# Altium schematic symbol library openmv-n6.SCHLIB: 99 symbols
Pins are listed as number, name and electrical type; pins without a type are passive.

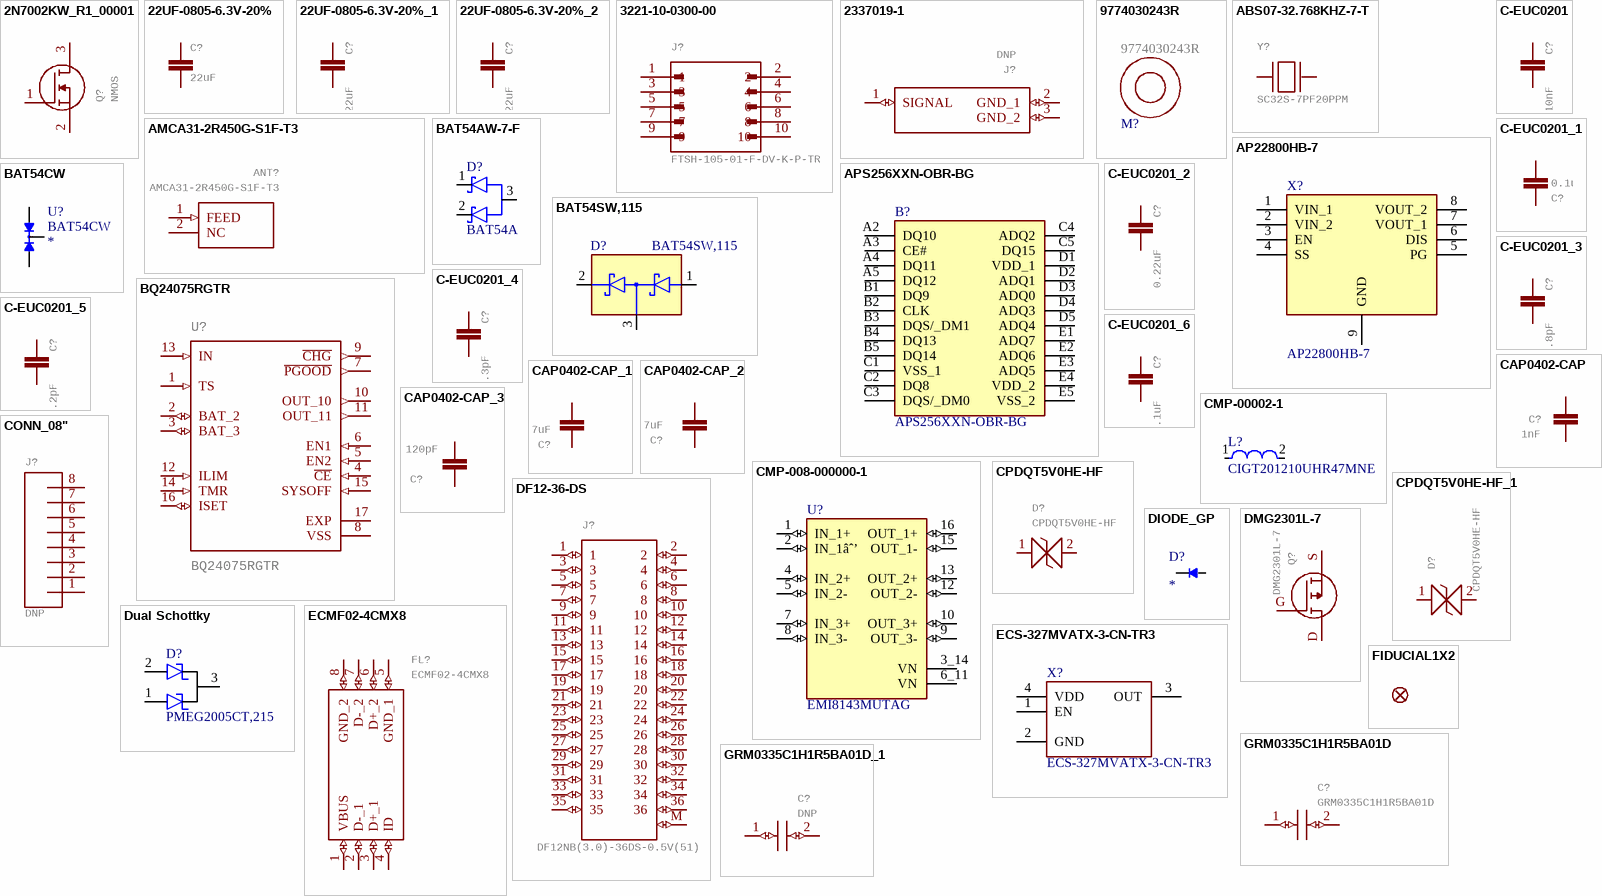
[diagram p0: symbols 2N7002KW_R1_00001 to GRM0335C1H1R5BA01D_1]

## 2N7002KW_R1_00001
designator Q?, comment NMOS
MOSFET 60V N-Channel Enhancement Mode MOSFET - ESD Protected   Source:  Datasheet
footprint DFN1006
pins: 1 G (io), 2 S (io), 3 D (io)

## 22UF-0805-6.3V-20%
designator C?, comment 22uF
22ÂµF ceramic capacitors    A capacitor is a passive two-terminal electrical component used to store electrical energy temporarily in an electric field.; MPN: CL21A226MQQNNNE; GateName_1: G$1; SymbolName_1: CAP; DeviceName: -0805-6.3V-20%; PROD_ID: CAP-08402; LibraryName: SparkFun-Capacitors; DeviceSetName: 22UF; Part Number: CL21A226MQQNNNE
footprint 0805
pins: 1, 2

## 22UF-0805-6.3V-20%_1
designator C?, comment 22uF
22ÂµF ceramic capacitors    A capacitor is a passive two-terminal electrical component used to store electrical energy temporarily in an electric field.; MPN: CL21A226MQQNNNE; GateName_1: G$1; SymbolName_1: CAP; DeviceName: -0805-6.3V-20%; PROD_ID: CAP-08402; LibraryName: SparkFun-Capacitors; DeviceSetName: 22UF; Part Number: CL21A226MQQNNNE
footprint 0805
pins: 1, 2

## 22UF-0805-6.3V-20%_2
designator C?, comment 22uF
22ÂµF ceramic capacitors    A capacitor is a passive two-terminal electrical component used to store electrical energy temporarily in an electric field.; MPN: GRM188R60G226MEA0D; GateName_1: G$1; SymbolName_1: CAP; DeviceName: -0805-6.3V-20%; PROD_ID: CAP-08402; LibraryName: SparkFun-Capacitors; DeviceSetName: 22UF; Part Number: GRM188R60G226MEA0D
footprint 0603-CAP (Chip Capacitor, Body 0603 imperial,1.6x0.8mm, IPC High Density)
pins: 1, 2

## 3221-10-0300-00
designator J?, comment FTSH-105-01-F-DV-K-P-TR
Check availability; GateName_1: G$1; SymbolName_1: 3221-10-0300-00; MF: CNC Tech; LibraryName: 3221-10-0300-00; DeviceSetName: 3221-10-0300-00; AVAILABILITY: In Stock; MP: FTSH-105-01-F-DV-K-P-TR; MPN: FTSH-105-01-F-DV-K-P-TR; PACKAGE: None; PRICE: None; PURCHASE-URL: https://pricing.snapeda.com/search/part/3221-10-0300-00/?ref=eda; Part Number: FTSH-105-01-F-DV-K-P-TR
footprint CNC_3221-10-0300-00
pins: 1, 2, 3, 4, 5, 6, 7, 8, 9, 10

## 2337019-1
designator J?, comment DNP
RF Connectors / Coaxial Connectors MicroCoax receptacle UMCC Gen 1   Source:  Datasheet; MANUFACTURER_NAME: TE Connectivity; GateName_1: G$1; SymbolName_1: 2337019-1; POPULATE: 0; LibraryName: 2337019-1; DeviceSetName: 2337019-1; HEIGHT: 1.4mm; MANUFACTURER_PART_NUMBER: 2337019-1; MOUSER_PART_NUMBER: 571-2337019-1; MOUSER_PRICE-STOCK: https://www.mouser.co.uk/ProductDetail/TE-Connectivity/2337019-1?qs=l4Gc20tDgJIuN7nS9rJkJw%3D%3D; MPN: DNP; Part Number: DNP
footprint 23370191-NO-3D (23370191)
pins: 1 SIGNAL (io), 2 GND_1 (io), 3 GND_2 (io)

## 9774030243R
designator M?
M2 3mm Standoff; GateName_1: G$1; SymbolName_1: 9774030243R; LibraryName: 9774030243R; DeviceSetName: 9774030243R; MPN: 9774030243R; Part Number: 9774030243R
footprint 9774030243R (Round Standoff Threaded M2x0.4 Steel 0.118" (3.00mm))

## ABS07-32.768KHZ-7-T
designator Y?, comment SC32S-7PF20PPM
Check availability; GateName_1: G$1; SymbolName_1: ABS07-32.768KHZ-7-T; MF: Abracon; LibraryName: ABS07-32.768KHZ-7-T; DeviceSetName: ABS07-32.768KHZ-7-T; AVAILABILITY: In Stock; MP: ABS07-32.768KHZ-7-T; MPN: SC32S-7PF20PPM; PACKAGE: SMD-2 Abracon LLC; PRICE: None; PURCHASE-URL: https://pricing.snapeda.com/search/part/ABS07-32.768KHZ-7-T/?ref=eda; Part Number: SC32S-7PF20PPM
footprint XTAL_ABS07-32.768KHZ-7-T
pins: 1, 2

## AMCA31-2R450G-S1F-T3
designator ANT?
ABRACON - AMCA31-2R450G-S1F-T3 - ANTENNA, CHIP, 2.45GHZ, 50 OHM, 1206   Source:  Datasheet; GateName_1: G$1; SymbolName_1: AMCA31-2R450G-S1F-T3; LibraryName: AMCA31-2R450G-S1F-T3; DeviceSetName: AMCA31-2R450G-S1F-T3; HEIGHT: 1.4mm; MANUFACTURER_NAME: ABRACON; MANUFACTURER_PART_NUMBER: AMCA31-2R450G-S1F-T3; MOUSER_PART_NUMBER: 815-CA312R450GS1FT3; MOUSER_PRICE-STOCK: https://www.mouser.co.uk/ProductDetail/ABRACON/AMCA31-2R450G-S1F-T3?qs=AAveGqk956GLuOddQEK40Q%3D%3D; MPN: AMCA31-2R450G-S1F-T3; Part Number: AMCA31-2R450G-S1F-T3
footprint ANTC3216X140N
pins: 1 FEED (in), 2 NC

## AP22800HB-7
designator X?
Power Switch ICs - Power Distribution Load Switch; Manufacturer_Name: Diodes Incorporated; Geometry.Height: 0.605mm; Mouser Part Number: 621-AP22800HB-7; Mouser Price/Stock: https://www.mouser.co.uk/ProductDetail/Diodes-Incorporated/AP22800HB-7?qs=9BjnSzo86S%2FcRh3gewZ%2Ftg%3D%3D; Manufacturer_Part_Number: AP22800HB-7; Datasheet Link: https://www.diodes.com/assets/Datasheets/AP22800.pdf; MPN: AP22800HB-7; Part Number: AP22800HB-7
footprint SON50P161X211X60-9N
pins: 1 VIN_1, 2 VIN_2, 3 EN, 4 SS, 5 PG, 6 DIS, 7 VOUT_1, 8 VOUT_2, 9 GND

## APS256XXN-OBR-BG
designator B?
DRAM IoT RAM 256Mb OPI (x8,x16) DDR 200MHz, 1.8V, Ind. Temp., BGA24; Manufacturer_Name: AP Memory; Geometry.Height: 1.2mm; Mouser Part Number: 878-APS256XXN-OBR-BG; Mouser Price/Stock: https://www.mouser.co.uk/ProductDetail/AP-Memory/APS256XXN-OBR-BG?qs=IS%252B4QmGtzzr0jQp6msfTlA%3D%3D; Manufacturer_Part_Number: APS256XXN-OBR-BG; Datasheet Link: https://www.mouser.ie/datasheet/2/1127/APM_PSRAM_OPI_Xccela_APS256XXN_OBRx_v1_0_PKG-1954780.pdf; Part Number: APS256XXN-OBR-BG; MPN: APS256XXN-OBR-BG
footprint 24-TBGA
pins: A2 DQ10, A3 CE#, A4 DQ11, A5 DQ12, B1 DQ9, B2 CLK, B3 DQS/_DM1, B4 DQ13, B5 DQ14, C1 VSS_1, C2 DQ8, C3 DQS/_DM0, C4 ADQ2, C5 DQ15, D1 VDD_1, D2 ADQ1, D3 ADQ0, D4 ADQ3, D5 ADQ4, E1 ADQ7, E2 ADQ6, E3 ADQ5, E4 VDD_2, E5 VSS_2

## BAT54AW-7-F
designator D?, comment BAT54A
Diode Array 1 Pair Common Anode Schottky 30V 200mA (DC) Surface Mount SC-70, SOT-323; Part Number: BAT54AW,115; Package: None; Source: BAT54AW-7-F.SchLib; Availability: Unavailable; Price: None; MP: BAT54A; Value: *; Design Item ID: BAT54A; Component Type: Standard; Pin Count: 3; MPN: BAT54AW,115
footprint SOT65P210X110-3N
pins: 1 C1, 2 C2, 3 CA

## BAT54CW
designator U?
Diode Array 1 Pair Common Cathode Schottky 30 V 200mA (DC) Surface Mount SC-70, SOT-323; Part Number: BAT54CW,115; MF: ON Semiconductor; SnapEDA_Link: https://www.snapeda.com/parts/BAT54CW/Onsemi/view-part/?ref=snap; MP: BAT54CW; Purchase-URL: https://pricing.snapeda.com/search/part/BAT54CW/?ref=eda; Check_prices: https://www.snapeda.com/parts/BAT54CW/Onsemi/view-part/?ref=eda; Component Type: Standard; Availability: In Stock; Package: SC-70 NXP Semiconductors; Source: BAT54CW.SchLib; Design Item ID: BAT54CW; Price: None; Pin Count: 3; MPN: BAT54CW,115; Value: *
footprint SOT65P210X110-3N
pins: 1, 2, 3

## BAT54SW,115
designator D?
BAT54W Series 30 V 600 mA SMT Schottky Barrier Double Diode -SOT-323; Source: BAT54SW,115.SchLib; Pin Count: 3; Price: None; Availability: Unavailable; Component Type: Standard; Value: *; Design Item ID: BAT54SW,115; MP: BAT54SW,115; Package: None; Part Number: BAT54SW,115; MPN: BAT54SW,115
footprint SOT65P210X110-3N
pins: 1 A, 2 C, 3 A-C

## BQ24075RGTR
designator U?
Standalone 1-cell 1.5-A linear charger, Power Path, 4.2-V VBAT and 5.5-V VOUT 16-VQFN -40 to 85  Check availability; GateName_1: G$1; MF: Texas Instruments; SymbolName_1: BQ24075RGTR; LibraryName: BQ24075RGTR; DeviceSetName: BQ24075RGTR; AVAILABILITY: In Stock; MP: BQ24075RGTR; MPN: BQ24075RGTR; PACKAGE: VQFN-16 Texas Instruments; PRICE: None; PURCHASE-URL: https://pricing.snapeda.com/search/part/BQ24075RGTR/?ref=eda; Part Number: BQ24075RGTR
footprint QFN50P300X300X100-17N
pins: 1 TS (in), 2 BAT_2 (io), 3 BAT_3 (io), 4 ~{CE} (in), 5 EN2 (in), 6 EN1 (in), 7 ~{PGOOD} (out), 8 VSS (power), 9 ~{CHG} (out), 10 OUT_10 (out), 11 OUT_11 (out), 12 ILIM (in), 13 IN (in), 14 TMR (in), 15 SYSOFF (in), 16 ISET (io), 17 EXP (power)

## C-EUC0201
designator C?, comment 10nF
CAPACITOR, European symbol; MPN: 0402B103K250CT; GateName_1: G$1; SymbolName_1: C-EU; POPULARITY: 0; LibraryName: rcl; DeviceSetName: C-EU; SPICEPREFIX: C; Part Number: 0402B103K250CT
footprint 0402-CAP (Chip Capacitor, 2-Leads, Body  0402 (in) 1005 (mm), IPC Medium Density)
pins: 1, 2

## C-EUC0201_1
designator C?, comment 0.1uF
CAPACITOR, European symbol; MPN: C0402C104Z4VAC; GateName_1: G$1; SymbolName_1: C-EU; POPULARITY: 0; LibraryName: rcl; DeviceSetName: C-EU; SPICEPREFIX: C; Part Number: C0402C104Z4VAC
footprint 0402-CAP (Chip Capacitor, 2-Leads, Body  0402 (in) 1005 (mm), IPC Medium Density)
pins: 1, 2

## C-EUC0201_2
designator C?, comment 0.22uF
CAPACITOR, European symbol; MPN: GRM033R60J224ME15D; GateName_1: G$1; SymbolName_1: C-EU; DeviceName: C0201; POPULARITY: 0; LibraryName: rcl; DeviceSetName: C-EU; SPICEPREFIX: C; Part Number: GRM033R60J224ME15D
footprint C0201
pins: 1, 2

## C-EUC0201_3
designator C?, comment 6.8pF
CAPACITOR, European symbol; MPN: GRM0335C1H6R8BA01D; GateName_1: G$1; SymbolName_1: C-EU; DeviceName: C0201; POPULARITY: 0; LibraryName: rcl; DeviceSetName: C-EU; SPICEPREFIX: C; Part Number: GRM0335C1H6R8BA01D
footprint C0201
pins: 1, 2

## C-EUC0201_4
designator C?, comment 3.3pF
CAPACITOR, European symbol; MPN: GRM0335C1H3R3CA01D; GateName_1: G$1; SymbolName_1: C-EU; DeviceName: C0201; POPULARITY: 0; LibraryName: rcl; DeviceSetName: C-EU; SPICEPREFIX: C; Part Number: GRM0335C1H3R3CA01D
footprint C0201
pins: 1, 2

## C-EUC0201_5
designator C?, comment 8.2pF
CAPACITOR, European symbol; MPN: GRM0335C1H8R2CA01D; GateName_1: G$1; SymbolName_1: C-EU; DeviceName: C0201; POPULARITY: 0; LibraryName: rcl; DeviceSetName: C-EU; SPICEPREFIX: C; Part Number: GRM0335C1H8R2CA01D
footprint C0201
pins: 1, 2

## C-EUC0201_6
designator C?, comment 0.1uF
CAPACITOR, European symbol; MPN: C0402C104Z4VAC; GateName_1: G$1; SymbolName_1: C-EU; POPULARITY: 0; LibraryName: rcl; DeviceSetName: C-EU; SPICEPREFIX: C; Part Number: C0402C104Z4VAC
footprint 0402-CAP (Chip Capacitor, 2-Leads, Body  0402 (in) 1005 (mm), IPC Medium Density)
pins: 1, 2

## CAP0402-CAP
designator C?, comment 1nF
Capacitor; MPN: VJ0402Y102JXACW1BC; GateName_1: G$1; SymbolName_1: CAP; DeviceName: 0402-CAP; LibraryName: sfe; DeviceSetName: CAP; Part Number: VJ0402Y102JXACW1BC
footprint 0402-CAP
pins: 1, 2

## CAP0402-CAP_1
designator C?, comment 4.7uF
CapacitorStandard 0603 ceramic capacitor, and 0.1" leaded capacitor.; MPN: JMK105BBJ475MV-F; GateName_1: G$1; SymbolName_1: CAP; DeviceName: 0402-CAP; LibraryName: sfe; DeviceSetName: CAP; Part Number: JMK105BBJ475MV-F
footprint 0402-CAP
pins: 1, 2

## CAP0402-CAP_2
designator C?, comment 4.7uF
CapacitorStandard 0603 ceramic capacitor, and 0.1" leaded capacitor.; MPN: JMK105BBJ475MV-F; GateName_1: G$1; SymbolName_1: CAP; DeviceName: 0402-CAP; LibraryName: sfe; DeviceSetName: CAP; Part Number: JMK105BBJ475MV-F
footprint 0402-CAP
pins: 1, 2

## CAP0402-CAP_3
designator C?, comment 120pF
CapacitorStandard 0603 ceramic capacitor, and 0.1" leaded capacitor.; MPN: GRM1555C2A121GE01D; GateName_1: G$1; SymbolName_1: CAP; DeviceName: 0402-CAP; LibraryName: sfe; DeviceSetName: CAP; Part Number: GRM1555C2A121GE01D
footprint 0402-CAP
pins: 1, 2

## CMP-00002-1
designator L?, comment CIGT201210UHR47MNE
Power Inductor : LxW size(mm) 2012 Thickness1 Inductance (uH) 20%: 0.47; Current Rating: 3.6A; Shielding: Unshielded; Test Frequency: 1MHz; DC Resistance (DCR): 31mR; Saturation Current: 5.4A; Core Material: Metal,Composite; Value: 470nH; Tolerance: 20%; Packaging: Cut Tape; Case Code (Imperial): 0805; Case/Package: 0805; RoHS Compliant: Yes; Max Operating Temperature: 125°C; Series: CIGT; Min Operating Temperature: -40°C; Mounting Technology: Surface Mount; Case Code (Metric): 2012; MPN: CIGT201210UHR47MNE; Part Number: CIGT201210UHR47MNE
footprint 0805 (Chip Capacitor, Body 0805 imperial, 2.0x1.2mm, IPC Medium Density)
pins: 1, 2

## CMP-008-000000-1
designator U?, comment EMI8143MUTAG
6 Line Common Mode Choke Surface Mount 100mA DCR 6Ohm (Typ); MF: ON Semiconductor; Design Item ID: EMI8143MUTAG; Source: EMI8143MUTAG.SchLib; Package: XDFN-16 ON Semiconductor; Pin Count: 14; MP: EMI8143MUTAG; Component Type: Standard; Digi-Key_Part_Number: EMI8143MUTAGOSCT-ND; Value: *; SnapEDA_Link: https://www.snapeda.com/parts/EMI8143MUTAG/ON%20Semiconductor/view-part/182093/?ref=snap; Purchase-URL: https://pricing.snapeda.com/search/part/EMI8143MUTAG/?ref=eda; MPN: EMI8143MUTAG; Part Number: EMI8143MUTAG
footprint IC_EMI8143MUTAG
pins: 1 IN_1+ (io), 2 IN_1âˆ’ (io), 3_14 VN (power), 4 IN_2+ (io), 5 IN_2- (io), 6_11 VN (power), 7 IN_3+ (io), 8 IN_3- (io), 9 OUT_3- (io), 10 OUT_3+ (io), 12 OUT_2- (io), 13 OUT_2+ (io), 15 OUT_1- (io), 16 OUT_1+ (io)

## CONN_08"
designator J?, comment DNP
Multi connection point. Often used as Generic Header-pin footprint for 0.1 inch spaced/style header connections    On any of the 0.1 inch spaced packages, you can populate with these:  Break Away Headers - Straight (PRT-00116)   Break Away Male Headers - Right Angle (PRT-00553)   Female Headers (PRT-00115)   Break Away Headers - Machine Pin (PRT-00117)   Break Away Female Headers - Swiss Machine Pin (PRT-00743)   Arduino Stackable Header - 8 Pin (PRT-09279)        For SCREWTERMINALS and SPRING TERMINALS visit here:  Screw Terimnals on SparkFun.com (5mm/3.5mm/2.54mm spacing)       This device is also useful as a general connection point to wire up your design to another part of your project. Our various solder wires solder well into these plated through hole pads.  Hook-Up Wire - Assortment (Stranded, 22 AWG) (PRT-11375)   Hook-Up Wire - Assortment (Solid Core, 22 AWG) (PRT-11367)   View the entire wire category on our website here          Special notes:     Molex polarized connector foot print use with SKU : PRT-08231 with associated crimp pins and housings. 1MM SMD Version SKU: PRT-10208    NOTES ON THE VARIANTS LOCK and LOCK_LONGPADS... This footprint was designed to help hold the alignment of a through-hole component (i.e.  6-pin header) while soldering it into place. You may notice that each hole has been shifted either up or down by 0.005 of an inch from it's more standard position (which is a perfectly straight line).  This slight alteration caused the pins (the squares in the middle) to touch the edges of the holes.  Because they are alternating, it causes a "brace" to hold the component in place.  0.005 has proven to be the perfect amount of "off-center" position when using our standard breakaway headers. Although looks a little odd when you look at the bare footprint, once you have a header in there, the alteration is very hard to notice.  Also,if you push a header all the way into place, it is covered up entirely on the bottom side.; GateName_1: G$1; SymbolName_1: CONN_08; DeviceName: "; POPULATE: 0; PROD_ID: CONN-08438; LibraryName: SparkFun-Connectors; DeviceSetName: CONN_08; MPN: DNP; Part Number: DNP
footprint 1X08
pins: 1, 2, 3, 4, 5, 6, 7, 8

## CPDQT5V0HE-HF
designator D?
ESD Suppressors / TVS Diodes DIODE ESD 5VWM 65W 0402/SOD-923F   Source:  Datasheet; MANUFACTURER_NAME: Comchip Technology; GateName_1: G$1; SymbolName_1: CPDQT5V0HE-HF; LibraryName: CPDQT5V0HE-HF; DeviceSetName: CPDQT5V0HE-HF; HEIGHT: 0.42mm; MANUFACTURER_PART_NUMBER: CPDQT5V0HE-HF; MOUSER_PART_NUMBER: MOUSER_PART_NUMBER; MOUSER_PRICE-STOCK: MOUSER_PRICE-STOCK; MPN: CPDQT5V0HE-HF; Part Number: CPDQT5V0HE-HF
footprint CPDQT5V0HEHF
pins: 1 (io), 2 (io)

## CPDQT5V0HE-HF_1
designator D?, comment CPDQT5V0HE-HF
ESD Suppressors / TVS Diodes DIODE ESD 5VWM 65W 0402/SOD-923F   Source:  Datasheet; MANUFACTURER_NAME: Comchip Technology; GateName_1: G$1; SymbolName_1: CPDQT5V0HE-HF; LibraryName: CPDQT5V0HE-HF; DeviceSetName: CPDQT5V0HE-HF; HEIGHT: 0.42mm; MANUFACTURER_PART_NUMBER: CPDQT5V0HE-HF; MOUSER_PART_NUMBER: MOUSER_PART_NUMBER; MOUSER_PRICE-STOCK: MOUSER_PRICE-STOCK; MPN: CPDQT5V0HE-HF; Part Number: CPDQT5V0HE-HF
footprint CPDQT5V0HEHF
pins: 1 (io), 2 (io)

## DF12-36-DS
designator J?, comment DF12NB(3.0)-36DS-0.5V(51)
Header; GateName_1: G$1; SymbolName_1: DF12-36; DeviceSetName: DF12-36-DS; LibraryName: DF12-36-DS; MPN: DF12NB(3.0)-36DS-0.5V(51); Part Number: DF12NB(3.0)-36DS-0.5V(51)
footprint DF12-36-DS
pins: 1 (io), 2 (io), 3 (io), 4 (io), 5 (io), 6 (io), 7 (io), 8 (io), 9 (io), 10 (io), 11 (io), 12 (io), 13 (io), 14 (io), 15 (io), 16 (io), 17 (io), 18 (io), 19 (io), 20 (io), 21 (io), 22 (io), 23 (io), 24 (io), 25 (io), 26 (io), 27 (io), 28 (io), 29 (io), 30 (io), 31 (io), 32 (io), 33 (io), 34 (io), 35 (io), 36 (io), M (io)

## DIODE_GP
designator D?
MF: *; MPN: *
footprint SOD523
pins: 1, 2

## DMG2301L-7
designator Q?
GateName_1: G$1; HEIGHT: 1.1mm; MPN: DMG2301L-7; Part Number: DMG2301L-7
footprint SOT-23-3-FET
pins: D (io), G (io), S (io)

## Dual Schottky
designator D?  MPN: PMEG2005CT,215  (hidden comment: Dual Schottky)
MANUFACTURER: Nexperia; Value: ?V; Part Number: PMEG2005CT,215
footprint SOT-23-3 (Footprint not found)
pins: 1, 2, 3

## ECMF02-4CMX8
designator FL?
Common Mode Filter & ESD Prot. USB uQFN8 STMicroelectronics ECMF02 Series, Signal Filter uQFN SMD, Flat Contact Termination, 2.6 x 1.3 x 0.6mm   Source:  Datasheet; GateName_1: G$1; SymbolName_1: ECMF02-4CMX8; LibraryName: ECMF02-4CMX8; DeviceSetName: ECMF02-4CMX8; HEIGHT: mm; MANUFACTURER_NAME: STMicroelectronics; MANUFACTURER_PART_NUMBER: ECMF02-4CMX8; MOUSER_PART_NUMBER: 511-ECMF02-4CMX8; MOUSER_PRICE-STOCK: https://www.mouser.co.uk/ProductDetail/STMicroelectronics/ECMF02-4CMX8?qs=xYt8xtm2zhmK7GoDlDZR3A%3D%3D; MPN: ECMF02-4CMX8; Part Number: ECMF02-4CMX8
footprint ECMF024CMX8
pins: 1 VBUS (io), 2 D-_1 (io), 3 D+_1 (io), 4 ID (io), 5 GND_1 (io), 6 D+_2 (io), 7 D-_2 (io), 8 GND_2 (io)

## ECS-327MVATX-3-CN-TR3
designator X?
Part Number: ECS-327MVATX-3-CN-TR3; MPN: ECS-327MVATX-3-CN-TR3
footprint XTAL_3225
pins: 1 EN, 2 GND, 3 OUT, 4 VDD

## FIDUCIAL1X2
designator FD?  (value not drawn)
Fiducial Alignment Points    Point-of-reference for pick-and-place machines and other optical instruments.; GateName_1: G$1; DeviceName: 1X2; SymbolName_1: FIDUCIAL; LibraryName: SparkFun-Aesthetics; DeviceSetName: FIDUCIAL
footprint FIDUCIAL-1X2

## GRM0335C1H1R5BA01D
designator C?
Chip Capacitor value 1R5   Source:  Datasheet; MANUFACTURER_NAME: Murata Electronics; GateName_1: G$1; SymbolName_1: GRM0335C1H1R5BA01D; LibraryName: GRM0335C1H1R5BA01D; DeviceSetName: GRM0335C1H1R5BA01D; HEIGHT: 0.33mm; MANUFACTURER_PART_NUMBER: GRM0335C1H1R5BA01D; MOUSER_PART_NUMBER: 81-GRM0335C1H1R5BA1D; MOUSER_PRICE-STOCK: https://www.mouser.co.uk/ProductDetail/Murata-Electronics/GRM0335C1H1R5BA01D?qs=7vGxPDjevFPFqveGwv%252BPUQ%3D%3D; MPN: GRM0335C1H1R5BA01D; Part Number: GRM0335C1H1R5BA01D
footprint CAPC0603X33N
pins: 1 (io), 2 (io)

## GRM0335C1H1R5BA01D_1
designator C?, comment DNP
Chip Capacitor value 1R5   Source:  Datasheet; MANUFACTURER_NAME: Murata Electronics; GateName_1: G$1; SymbolName_1: GRM0335C1H1R5BA01D; POPULATE: 0; LibraryName: GRM0335C1H1R5BA01D; DeviceSetName: GRM0335C1H1R5BA01D; HEIGHT: 0.33mm; MANUFACTURER_PART_NUMBER: GRM0335C1H1R5BA01D; MOUSER_PART_NUMBER: 81-GRM0335C1H1R5BA1D; MOUSER_PRICE-STOCK: https://www.mouser.co.uk/ProductDetail/Murata-Electronics/GRM0335C1H1R5BA01D?qs=7vGxPDjevFPFqveGwv%252BPUQ%3D%3D; MPN: DNP; Part Number: DNP
footprint C0201-NO-3D (Footprint not found)
pins: 1 (io), 2 (io)

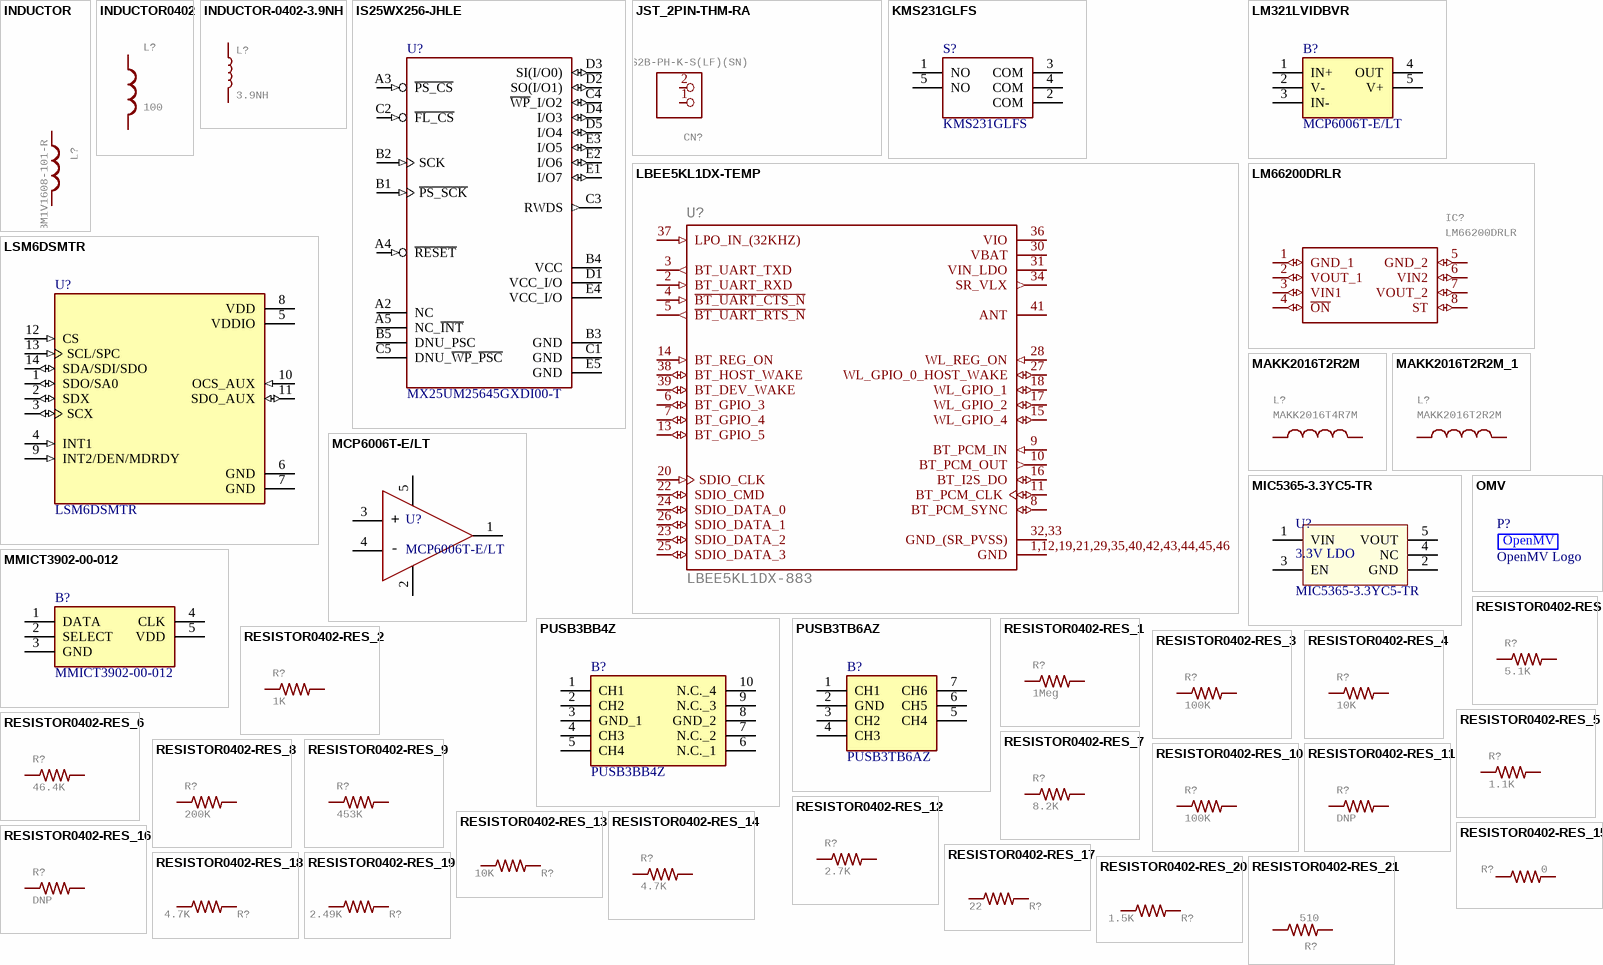
[diagram p1: symbols INDUCTOR to RESISTOR0402-RES_21]

## INDUCTOR
designator L?, comment MFBM1V1608-101-R
InductorsBasic Inductor/Choke - 0603 and 1206. Footprints are not proven and vary greatly between part numbers.; GateName_1: G$1; MPN: MFBM1V1608-101-R; Part Number: MFBM1V1608-101-R
footprint 0603-RES
pins: 1, 2

## INDUCTOR0402
designator L?, comment 100
InductorsBasic Inductor/Choke - 0603 and 1206. Footprints are not proven and vary greatly between part numbers.; MPN: MFBM1V1005-101-R; GateName_1: G$1; DeviceName: 0402; SymbolName_1: INDUCTOR; LibraryName: sfe; DeviceSetName: INDUCTOR; Part Number: MFBM1V1005-101-R
footprint C0402
pins: 1, 2

## INDUCTOR-0402-3.9NH
designator L?, comment 3.9NH
Inductors    Resist changes in electrical current. Basically a coil of wire.   SparkFun Products:  SparkFun Load Cell Amplifier - HX711  IOIO-OTG - V2.2; MPN: L-07C3N9SV6T; GateName_1: G$1; DeviceName: -0402-3.9NH; PROD_ID: NDUC-13457; SymbolName_1: INDUCTOR; LibraryName: SparkFun-Coils; DeviceSetName: INDUCTOR; Part Number: L-07C3N9SV6T
footprint 0402
pins: 1, 2

## IS25WX256-JHLE
designator U?, comment MX25UM25645GXDI00-T
IC, Flash,32MB x 8, Octal SPI, Ind Temp, 1.8V,24-BGA; Part Number: MX25UM25645GXDI00-T; MPN: MX25UM25645GXDI00-T
footprint BGA24C100P5X5_800X600X120N
footprint 24-TBGA
pins: A2 NC, A3 ~{PS_CS} (in), A4 ~{RESET} (in), A5 NC_~{INT}, B1 ~{PS_SCK} (in), B2 SCK (in), B3 GND (power), B4 VCC (power), B5 DNU_PSC, C1 GND (power), C2 ~{FL_CS} (in), C3 RWDS (out), C4 ~{WP}_I/O2 (io), C5 DNU_~{WP}_~{PSC}, D1 VCC_I/O (power), D2 SO(I/O1) (io), D3 SI(I/O0) (io), D4 I/O3 (io), D5 I/O4 (io), E1 I/O7 (io), E2 I/O6 (io), E3 I/O5 (io), E4 VCC_I/O (power), E5 GND (power)

## JST_2PIN-THM-RA
designator CN?, comment S2B-PH-K-S(LF)(SN)
JST 2-Pin Connectors of various flavors SMT-RA (S2B-PH-SM4) 4UConnector #17311  SMT  (B2B-PH-SM4)  THM-RA (S2B-PH)  THM  (B2B-PH); GateName_1: G$1; SymbolName_1: PINHD2; DeviceName: -THM-RA; DeviceSetName: JST_2PIN; LibraryName: adafruit-updated; MPN: S2B-PH-K-S(LF)(SN); Part Number: S2B-PH-K-S(LF)(SN)
footprint JST-PH-2-THM-RA
pins: 1 2, 2 1

## KMS231GLFS
designator S?
Part Number: KMS231GLFS; MPN: KMS231GLFS
footprint KMS231GLFS
pins: 1 NO, 2 COM, 3 COM, 4 COM, 5 NO

## LBEE5KL1DX-TEMP
designator U?, comment LBEE5KL1DX-883
Broadcom Chipset for 802.11b/g/n + Bluetooth 4.1/EDR; GateName_1: G$1; SymbolName_1: LBEE5KL1DX-TEMP; MF: Murata Electronics; LibraryName: LBEE5KL1DX-TEMP; DeviceSetName: LBEE5KL1DX-TEMP; AVAILABILITY: Unavailable; MP: LBEE5KL1DX-TEMP; MPN: LBEE5KL1DX-883; PACKAGE: None; PRICE: None; Part Number: LBEE5KL1DX-883
footprint XCVR_LBEE5KL1DX-TEMP
pins: 1,12,19,21,29,35,40,42,43,44,45,46 GND (power), 2 BT_UART_RXD (in), 3 BT_UART_TXD (out), 4 ~{BT_UART_CTS_N} (in), 5 ~{BT_UART_RTS_N} (out), 6 BT_GPIO_3 (io), 7 BT_GPIO_4 (io), 8 BT_PCM_SYNC (io), 9 BT_PCM_IN (in), 10 BT_PCM_OUT (out), 11 BT_PCM_CLK (io), 13 BT_GPIO_5 (io), 14 BT_REG_ON (in), 15 WL_GPIO_4 (io), 16 BT_I2S_DO (io), 17 WL_GPIO_2 (io), 18 WL_GPIO_1 (io), 20 SDIO_CLK (in), 22 SDIO_CMD (io), 23 SDIO_DATA_2 (io), 24 SDIO_DATA_0 (io), 25 SDIO_DATA_3 (io), 26 SDIO_DATA_1 (io), 27 WL_GPIO_0_HOST_WAKE (io), 28 WL_REG_ON (in), 30 VBAT (power), 31 VIN_LDO (power), 32,33 GND_(SR_PVSS) (power), 34 SR_VLX (out), 36 VIO (power), 37 LPO_IN_(32KHZ) (in), 38 BT_HOST_WAKE (io), 39 BT_DEV_WAKE (io), 41 ANT

## LM321LVIDBVR
designator B?, comment MCP6006T-E/LT
1-Channel Industry Standard Low Voltage Operational Amplifier; Manufacturer_Name: Microchip; Manufacturer_Part_Number: MCP6006T-E/LT
footprint SC70-5
pins: 1 IN+, 2 V-, 3 IN-, 4 OUT, 5 V+

## LM66200DRLR
designator IC?
1.6-V to 5.5-V, 40-m, 2.5-A, low-IQ, dual ideal diode   Source:  Datasheet; MANUFACTURER_NAME: Texas Instruments; GateName_1: G$1; SymbolName_1: LM66200DRLR; LibraryName: LM66200DRLR; DeviceSetName: LM66200DRLR; HEIGHT: 0.6mm; MANUFACTURER_PART_NUMBER: LM66200DRLR; MOUSER_PART_NUMBER: 595-LM66200DRLR; MOUSER_PRICE-STOCK: https://www.mouser.co.uk/ProductDetail/Texas-Instruments/LM66200DRLR?qs=Rp5uXu7WBW90hnpZAkIOdQ%3D%3D; MPN: LM66200DRLR; Part Number: LM66200DRLR
footprint SOTFL50P160X60-8N
pins: 1 GND_1 (io), 2 VOUT_1 (io), 3 VIN1 (io), 4 ~{ON} (io), 5 GND_2 (io), 6 VIN2 (io), 7 VOUT_2 (io), 8 ST (io)

## LSM6DSMTR
designator U?
Accelerometer, Gyroscope, Temperature, 6 Axis Sensor IÂ²C, SPI Output; MF: STMicroelectronics; Design Item ID: LSM6DSMTR; Package: VFLGA-14 STMicroelectronics; Component Type: Standard; Price: None; Value: *; Pin Count: 14; SnapEDA_Link: https://www.snapeda.com/parts/LSM6DSMTR/STMicroelectronics/view-part/581716/?ref=snap; Availability: Unavailable; Source: SnapEDAsch.SchLib; MP: LSM6DSMTR; MPN: LSM6DSMTR; Part Number: LSM6DSMTR
footprint LSM6DSMTR (Accelerometer, Gyroscope, Temperature, 6 Axis Sensor I²C, SPI Output)
pins: 1 SDO/SA0 (io), 2 SDX (io), 3 SCX (io), 4 INT1 (in), 5 VDDIO (power), 6 GND (power), 7 GND (power), 8 VDD (power), 9 INT2/DEN/MDRDY (in), 10 OCS_AUX (in), 11 SDO_AUX (io), 12 CS (in), 13 SCL/SPC (in), 14 SDA/SDI/SDO (io)

## MAKK2016T2R2M
designator L?, comment MAKK2016T4R7M
INDUCTOR, METAL CORE Check availability; GateName_1: G$1; MF: Taiyo Yuden; SymbolName_1: MAKK2016T4R7M; LibraryName: MAKK2016T4R7M; DeviceSetName: MAKK2016T4R7M; AVAILABILITY: In Stock; MP: MAKK2016T4R7M; MPN: MAKK2016T4R7M; PACKAGE: 2016 Taiyo Yuden; PRICE: None; PURCHASE-URL: https://pricing.snapeda.com/search/part/MAKK2016T4R7M/?ref=eda; Part Number: MAKK2016T4R7M
footprint INDC2016X100N
pins: 1, 2

## MAKK2016T2R2M_1
designator L?, comment MAKK2016T2R2M
INDUCTOR, METAL CORE Check availability; GateName_1: G$1; MF: Taiyo Yuden; SymbolName_1: MAKK2016T2R2M; LibraryName: MAKK2016T2R2M; DeviceSetName: MAKK2016T2R2M; AVAILABILITY: In Stock; MP: MAKK2016T2R2M; MPN: MAKK2016T2R2M; PACKAGE: 2016 Taiyo Yuden; PRICE: None; PURCHASE-URL: https://pricing.snapeda.com/search/part/MAKK2016T2R2M/?ref=eda; Part Number: MAKK2016T2R2M
footprint INDC2016X100N
pins: 1, 2

## MCP6006T-E/LT
designator U?
MF: Microchip; MPN: MCP6006T-E/LT
footprint SC70-5
pins: 1 OUT, 2 GND, 3 IN+, 4 IN-, 5 VDD
text: +; -

## MIC5365-3.3YC5-TR
designator U?, comment 3.3V LDO  MPN: MIC5365-3.3YC5-TR
MF: Microchip
footprint SC70-5
pins: 1 VIN, 2 GND, 3 EN, 4 NC, 5 VOUT

## MMICT3902-00-012
designator B?
Mic Omni-Directional -26dB Rectangle Solder Pad; Manufacturer_Name: TDK; Geometry.Height: 1.13mm; Mouser Part Number: 410-MMICT3902-00-012; Mouser Price/Stock: https://www.mouser.co.uk/ProductDetail/TDK-InvenSense/MMICT3902-00-012?qs=yqaQSyyJnNi1lpqXyrpxOA%3D%3D; Manufacturer_Part_Number: MMICT3902-00-012; Datasheet Link: http://invensense.tdk.com/wp-content/uploads/2020/05/DS-000357-T3902-v1.0.pdf; Part Number: MMICT3902-00-012; MPN: MMICT3902-00-012
footprint MMICT390200012
pins: 1 DATA, 2 SELECT, 3 GND, 4 CLK, 5 VDD

## OMV
designator P?, comment OpenMV Logo  (no BOM)
footprint OMV-LOGO-SMALL
text: OpenMV

## PUSB3BB4Z
designator B?
PUSB3BB4 - Extremely low capacitance bidirectional ESD protection diode array@en-us; Manufacturer_Name: Nexperia; Geometry.Height: 0.5mm; Mouser Part Number: 771-PUSB3BB4Z; Mouser Price/Stock: https://www.mouser.co.uk/ProductDetail/Nexperia/PUSB3BB4Z?qs=1Kr7Jg1SGW9sIg06EAYF6Q%3D%3D; Manufacturer_Part_Number: PUSB3BB4Z; Datasheet Link: https://assets.nexperia.com/documents/short-data-sheet/PUSB3BB4_SDS.pdf
footprint SON50P100X250X50-10N
pins: 1 CH1, 2 CH2, 3 GND_1, 4 CH3, 5 CH4, 6 N.C._1, 7 N.C._2, 8 GND_2, 9 N.C._3, 10 N.C._4

## PUSB3TB6AZ
designator B?
NEXPERIA - PUSB3TB6AZ - DIODE, ESD PROTECTION, 5.5V, 0.27PF; Geometry.Height: 0.5mm; Mouser Part Number: 771-PUSB3TB6AZ; Mouser Price/Stock: https://www.mouser.co.uk/ProductDetail/Nexperia/PUSB3TB6AZ?qs=K2OaAKmNuLgsAI4MRas6Xw%3D%3D; Manufacturer_Name: Nexperia; Manufacturer_Part_Number: PUSB3TB6AZ; Datasheet Link: https://assets.nexperia.com/documents/data-sheet/PUSB3TB6.pdf; Part Number: PUSB3TB6AZ; MPN: PUSB3TB6AZ
footprint PUSB3TB6AZ
pins: 1 CH1, 2 GND, 3 CH2, 4 CH3, 5 CH4, 6 CH5, 7 CH6

## RESISTOR0402-RES
designator R?, comment 5.1K
ResistorBasic schematic elements and footprints for 0603, 1206, and PTH resistors.; MPN: RC0402JR-075K1L; GateName_1: G$1; DeviceName: 0402-RES; SymbolName_1: RESISTOR; LibraryName: sfe; DeviceSetName: RESISTOR; Part Number: RC0402JR-075K1L
footprint 0402-RES
pins: 1, 2

## RESISTOR0402-RES_1
designator R?, comment 1Meg
Resistor; MPN: CRCW04021M00FKEDC; GateName_1: G$1; DeviceName: 0402-RES; SymbolName_1: RESISTOR; LibraryName: sfe; DeviceSetName: RESISTOR; Part Number: CRCW04021M00FKEDC
footprint 0402-RES
pins: 1, 2

## RESISTOR0402-RES_2
designator R?, comment 1K
ResistorBasic schematic elements and footprints for 0603, 1206, and PTH resistors.; MPN: CRCW04021K00FKEDC; GateName_1: G$1; DeviceName: 0402-RES; SymbolName_1: RESISTOR; LibraryName: sfe; DeviceSetName: RESISTOR; Part Number: CRCW04021K00FKEDC
footprint 0402-RES
pins: 1, 2

## RESISTOR0402-RES_3
designator R?, comment 100K
ResistorBasic schematic elements and footprints for 0603, 1206, and PTH resistors.; MPN: AC0402FR-07100KL; GateName_1: G$1; DeviceName: 0402-RES; SymbolName_1: RESISTOR; LibraryName: sfe; DeviceSetName: RESISTOR; Part Number: AC0402FR-07100KL
footprint 0402-RES
pins: 1, 2

## RESISTOR0402-RES_4
designator R?, comment 10K
ResistorBasic schematic elements and footprints for 0603, 1206, and PTH resistors.; MPN: AC0402FR-1310KL; GateName_1: G$1; DeviceName: 0402-RES; SymbolName_1: RESISTOR; LibraryName: sfe; DeviceSetName: RESISTOR; Part Number: AC0402FR-1310KL
footprint 0402-RES
pins: 1, 2

## RESISTOR0402-RES_5
designator R?, comment 1.1K
ResistorBasic schematic elements and footprints for 0603, 1206, and PTH resistors.; MPN: RC0402JR-071K1; GateName_1: G$1; DeviceName: 0402-RES; SymbolName_1: RESISTOR; LibraryName: sfe; DeviceSetName: RESISTOR; Part Number: RC0402JR-071K1
footprint 0402-RES
pins: 1, 2

## RESISTOR0402-RES_6
designator R?, comment 46.4K
ResistorBasic schematic elements and footprints for 0603, 1206, and PTH resistors.; MPN: WR04X4642FTL; GateName_1: G$1; DeviceName: 0402-RES; SymbolName_1: RESISTOR; LibraryName: sfe; DeviceSetName: RESISTOR; Part Number: WR04X4642FTL
footprint 0402-RES
pins: 1, 2

## RESISTOR0402-RES_7
designator R?, comment 8.2K
ResistorBasic schematic elements and footprints for 0603, 1206, and PTH resistors.; MPN: CR0402-FX-8201GLF; GateName_1: G$1; DeviceName: 0402-RES; SymbolName_1: RESISTOR; LibraryName: sfe; DeviceSetName: RESISTOR; Part Number: CR0402-FX-8201GLF
footprint 0402-RES
pins: 1, 2

## RESISTOR0402-RES_8
designator R?, comment 200K
ResistorBasic schematic elements and footprints for 0603, 1206, and PTH resistors.; MPN: CR0402-FX-2003GLF; GateName_1: G$1; DeviceName: 0402-RES; SymbolName_1: RESISTOR; LibraryName: sfe; DeviceSetName: RESISTOR; Part Number: CR0402-FX-2003GLF
footprint 0402-RES
pins: 1, 2

## RESISTOR0402-RES_9
designator R?, comment 453K
ResistorBasic schematic elements and footprints for 0603, 1206, and PTH resistors.; MPN: CR0402-FX-4533GLF; GateName_1: G$1; DeviceName: 0402-RES; SymbolName_1: RESISTOR; LibraryName: sfe; DeviceSetName: RESISTOR; Part Number: CR0402-FX-4533GLF
footprint 0402-RES
pins: 1, 2

## RESISTOR0402-RES_10
designator R?, comment 100K
ResistorBasic schematic elements and footprints for 0603, 1206, and PTH resistors.; MPN: AC0402FR-07100KL; GateName_1: G$1; DeviceName: 0402-RES; SymbolName_1: RESISTOR; LibraryName: sfe; DeviceSetName: RESISTOR; Part Number: AC0402FR-07100KL
footprint 0402-RES
pins: 1, 2

## RESISTOR0402-RES_11
designator R?, comment DNP
ResistorBasic schematic elements and footprints for 0603, 1206, and PTH resistors.; GateName_1: G$1; DeviceName: 0402-RES; SymbolName_1: RESISTOR; LibraryName: sfe; DeviceSetName: RESISTOR; MPN: DNP; Part Number: DNP
footprint 0402-RES
pins: 1, 2

## RESISTOR0402-RES_12
designator R?, comment 2.7K
ResistorBasic schematic elements and footprints for 0603, 1206, and PTH resistors.; MPN: AC0402JR-072K7L; GateName_1: G$1; DeviceName: 0402-RES; SymbolName_1: RESISTOR; LibraryName: sfe; DeviceSetName: RESISTOR; Part Number: AC0402JR-072K7L
footprint 0402-RES
pins: 1, 2

## RESISTOR0402-RES_13
designator R?, comment 10K
ResistorBasic schematic elements and footprints for 0603, 1206, and PTH resistors.; MPN: AC0402FR-1310K; GateName_1: G$1; DeviceName: 0402-RES; SymbolName_1: RESISTOR; LibraryName: sfe; DeviceSetName: RESISTOR; Part Number: AC0402FR-1310K
footprint 0402-RES
pins: 1, 2

## RESISTOR0402-RES_14
designator R?, comment 4.7K
ResistorBasic schematic elements and footprints for 0603, 1206, and PTH resistors.; MPN: AC0402FR-074K7L; GateName_1: G$1; DeviceName: 0402-RES; SymbolName_1: RESISTOR; LibraryName: sfe; DeviceSetName: RESISTOR; Part Number: AC0402FR-074K7L
footprint 0402-RES
pins: 1, 2

## RESISTOR0402-RES_15
designator R?, comment 0
ResistorBasic schematic elements and footprints for 0603, 1206, and PTH resistors.; MPN: RC0402JR-070R; GateName_1: G$1; DeviceName: 0402-RES; SymbolName_1: RESISTOR; LibraryName: sfe; DeviceSetName: RESISTOR; Part Number: RC0402JR-070R
footprint 0402-RES
pins: 1, 2

## RESISTOR0402-RES_16
designator R?, comment DNP
ResistorBasic schematic elements and footprints for 0603, 1206, and PTH resistors.; GateName_1: G$1; DeviceName: 0402-RES; SymbolName_1: RESISTOR; LibraryName: sfe; DeviceSetName: RESISTOR
footprint 0402-RES
pins: 1, 2

## RESISTOR0402-RES_17
designator R?, comment 22
MPN: CR0201-JW-220GLF; GateName_1: G$1; SymbolName_1: RESISTOR; LibraryName: sfe; DeviceSetName: RESISTOR; Part Number: CR0201-JW-220GLF
footprint R0201 (0201 IPC-7351)
pins: 1, 2

## RESISTOR0402-RES_18
designator R?, comment 4.7K
MPN: CR0201-FW-4701GLF; GateName_1: G$1; SymbolName_1: RESISTOR; LibraryName: sfe; DeviceSetName: RESISTOR; Part Number: CR0201-FW-4701GLF
footprint R0201 (0201 IPC-7351)
pins: 1, 2

## RESISTOR0402-RES_19
designator R?, comment 2.49K
MPN: RC0201FR-072K49L; GateName_1: G$1; SymbolName_1: RESISTOR; LibraryName: sfe; DeviceSetName: RESISTOR; Part Number: RC0201FR-072K49L
footprint R0201 (0201 IPC-7351)
pins: 1, 2

## RESISTOR0402-RES_20
designator R?, comment 1.5K
MPN: AC0201JR-071K5L; GateName_1: G$1; SymbolName_1: RESISTOR; LibraryName: sfe; DeviceSetName: RESISTOR; Part Number: AC0201JR-071K5L
footprint R0201 (0201 IPC-7351)
pins: 1, 2

## RESISTOR0402-RES_21
designator R?, comment 510
ResistorBasic schematic elements and footprints for 0603, 1206, and PTH resistors.; MPN: RC0402FR-07510RL; GateName_1: G$1; DeviceName: 0402-RES; SymbolName_1: RESISTOR; LibraryName: sfe; DeviceSetName: RESISTOR; Part Number: RC0402FR-07510RL
footprint 0402-RES
pins: 1, 2

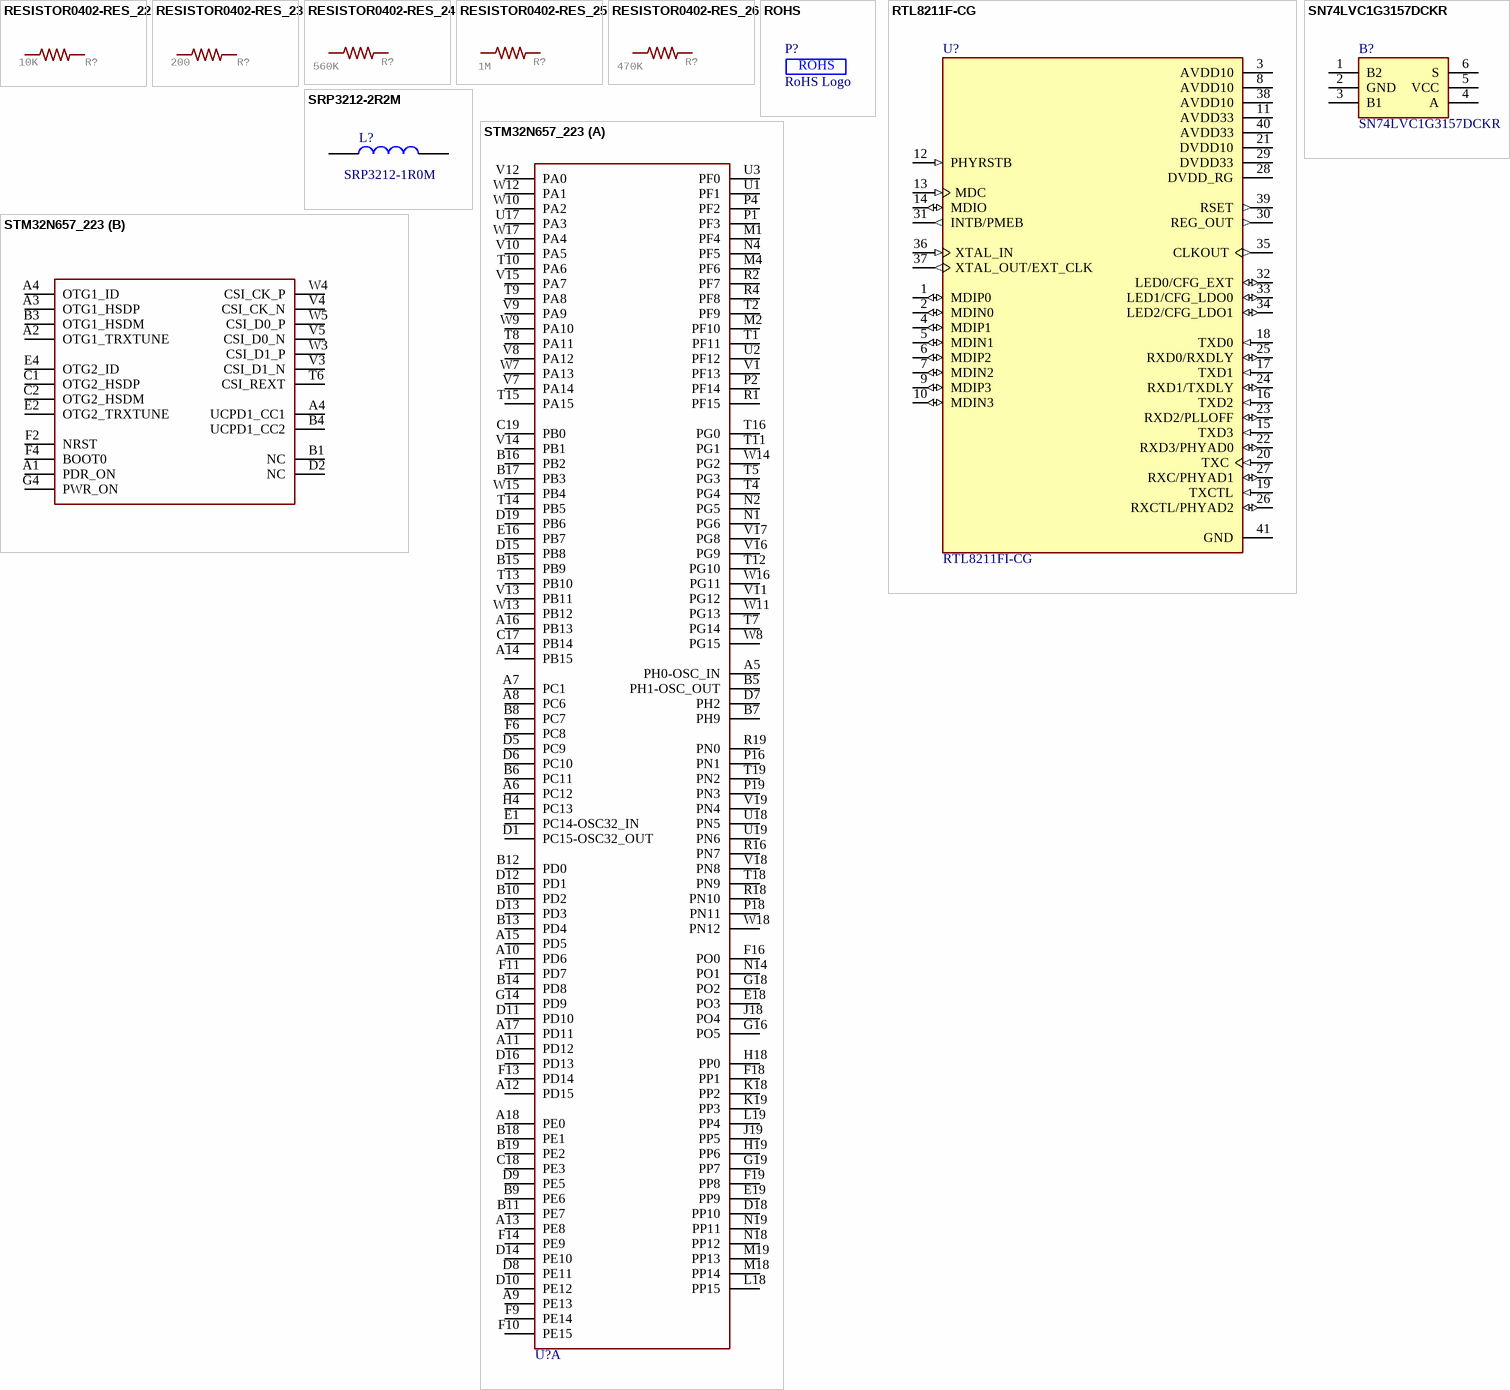
[diagram p2: symbols RESISTOR0402-RES_22 to STM32N657_223]

## RESISTOR0402-RES_22
designator R?, comment 10K
MPN: CR0201-JW-103GLF; GateName_1: G$1; SymbolName_1: RESISTOR; LibraryName: sfe; DeviceSetName: RESISTOR; Part Number: CR0201-JW-103GLF
footprint R0201 (0201 IPC-7351)
pins: 1, 2

## RESISTOR0402-RES_23
designator R?, comment 200
MPN: CR0201-FW-2000GLF; GateName_1: G$1; SymbolName_1: RESISTOR; LibraryName: sfe; DeviceSetName: RESISTOR; Part Number: CR0201-FW-2000GLF
footprint R0201 (0201 IPC-7351)
pins: 1, 2

## RESISTOR0402-RES_24
designator R?, comment 560K
ResistorBasic schematic elements and footprints for 0603, 1206, and PTH resistors.; MPN: RMCF0402FT560K; GateName_1: G$1; DeviceName: 0402-RES; SymbolName_1: RESISTOR; LibraryName: sfe; DeviceSetName: RESISTOR; Part Number: RMCF0402FT560K
footprint 0402-RES
pins: 1, 2

## RESISTOR0402-RES_25
designator R?, comment 1M
ResistorBasic schematic elements and footprints for 0603, 1206, and PTH resistors.; MPN: CRCW04021M00FKEDC; GateName_1: G$1; DeviceName: 0402-RES; SymbolName_1: RESISTOR; LibraryName: sfe; DeviceSetName: RESISTOR; Part Number: CRCW04021M00FKEDC
footprint 0402-RES
pins: 1, 2

## RESISTOR0402-RES_26
designator R?, comment 470K
ResistorBasic schematic elements and footprints for 0603, 1206, and PTH resistors.; MPN: RC0402FR-7D470KL; GateName_1: G$1; DeviceName: 0402-RES; SymbolName_1: RESISTOR; LibraryName: sfe; DeviceSetName: RESISTOR; Part Number: RC0402FR-7D470KL
footprint 0402-RES
pins: 1, 2

## ROHS
designator P?, comment RoHS Logo  (no BOM)
footprint ROHS

## RTL8211F-CG
designator U?, comment RTL8211FI-CG
GbE PHY with RGMIII interface & EEE feature (Switch Regulator), QFN40; MF: Realtek Semiconductor Corp; MP: RTL8211F-CG; Package: None; Pin Count: 41; Availability: In Stock; Price: None; Value: *; SnapEDA_Link: https://www.snapeda.com/parts/RTL8211F-CG/Realtek/view-part/?ref=snap; Design Item ID: RTL8211F-CG; Component Type: Standard; Check_prices: https://www.snapeda.com/parts/RTL8211F-CG/Realtek/view-part/?ref=eda; Source: RTL8211F-CG.SchLib; Part Number: RTL8211FI-CG; MPN: RTL8211FI-CG
footprint RTL8211FI-CG
pins: 1 MDIP0 (io), 2 MDIN0 (io), 3 AVDD10 (power), 4 MDIP1 (io), 5 MDIN1 (io), 6 MDIP2 (io), 7 MDIN2 (io), 8 AVDD10 (power), 9 MDIP3 (io), 10 MDIN3 (io), 11 AVDD33 (power), 12 PHYRSTB (in), 13 MDC (in), 14 MDIO (io), 15 TXD3 (in), 16 TXD2 (in), 17 TXD1 (in), 18 TXD0 (in), 19 TXCTL (in), 20 TXC (in), 21 DVDD10 (power), 22 RXD3/PHYAD0 (io), 23 RXD2/PLLOFF (io), 24 RXD1/TXDLY (io), 25 RXD0/RXDLY (io), 26 RXCTL/PHYAD2 (io), 27 RXC/PHYAD1 (io), 28 DVDD_RG (power), 29 DVDD33 (power), 30 REG_OUT (out), 31 INTB/PMEB (out), 32 LED0/CFG_EXT (io), 33 LED1/CFG_LDO0 (io), 34 LED2/CFG_LDO1 (io), 35 CLKOUT (out), 36 XTAL_IN (in), 37 XTAL_OUT/EXT_CLK (out), 38 AVDD10 (power), 39 RSET (out), 40 AVDD33 (power), 41 GND (power)

## SN74LVC1G3157DCKR
designator B?
SN74LVC1G3157DCKR, Analogue Switch Single SPDT, 3, 5V, 6-Pin, SC-70; Manufacturer_Name: Texas Instruments; Geometry.Height: 1.1mm; Mouser Part Number: 595-SN74LVC1G3157DCK; Mouser Price/Stock: https://www.mouser.co.uk/ProductDetail/Texas-Instruments/SN74LVC1G3157DCKR?qs=PVVDbbWpW3J21wbz0QWbxg%3D%3D; Manufacturer_Part_Number: SN74LVC1G3157DCKR; Datasheet Link: http://www.ti.com/lit/ds/symlink/sn74lvc1g3157.pdf; Part Number: SN74LVC1G3157DCKR; MPN: SN74LVC1G3157DCKR
footprint SOT65P210X110-6N
pins: 1 B2, 2 GND, 3 B1, 4 A, 5 VCC, 6 S

## SRP3212-2R2M
designator L?, comment SRP3212-1R0M
Ind,3.2x2.5x1mm,1.0uH?20%,6.5A,shd; Manufacturer_Name: Bourns; Geometry.Height: 1mm; Mouser Part Number: 652-SRP3212-1R0M; Mouser Price/Stock: https://www.mouser.com/ProductDetail/Bourns/SRP3212-1R0M?qs=t7xnP681wgVwh6hWpVPUMg%3D%3D; Manufacturer_Part_Number: SRP3212-1R0M; Datasheet Link: https://www.bourns.com/pdfs/CVH.pdf; Part Number: SRP3212-1R0M; MPN: SRP3212-1R0M
footprint IND3225X100N
pins: 1, 2

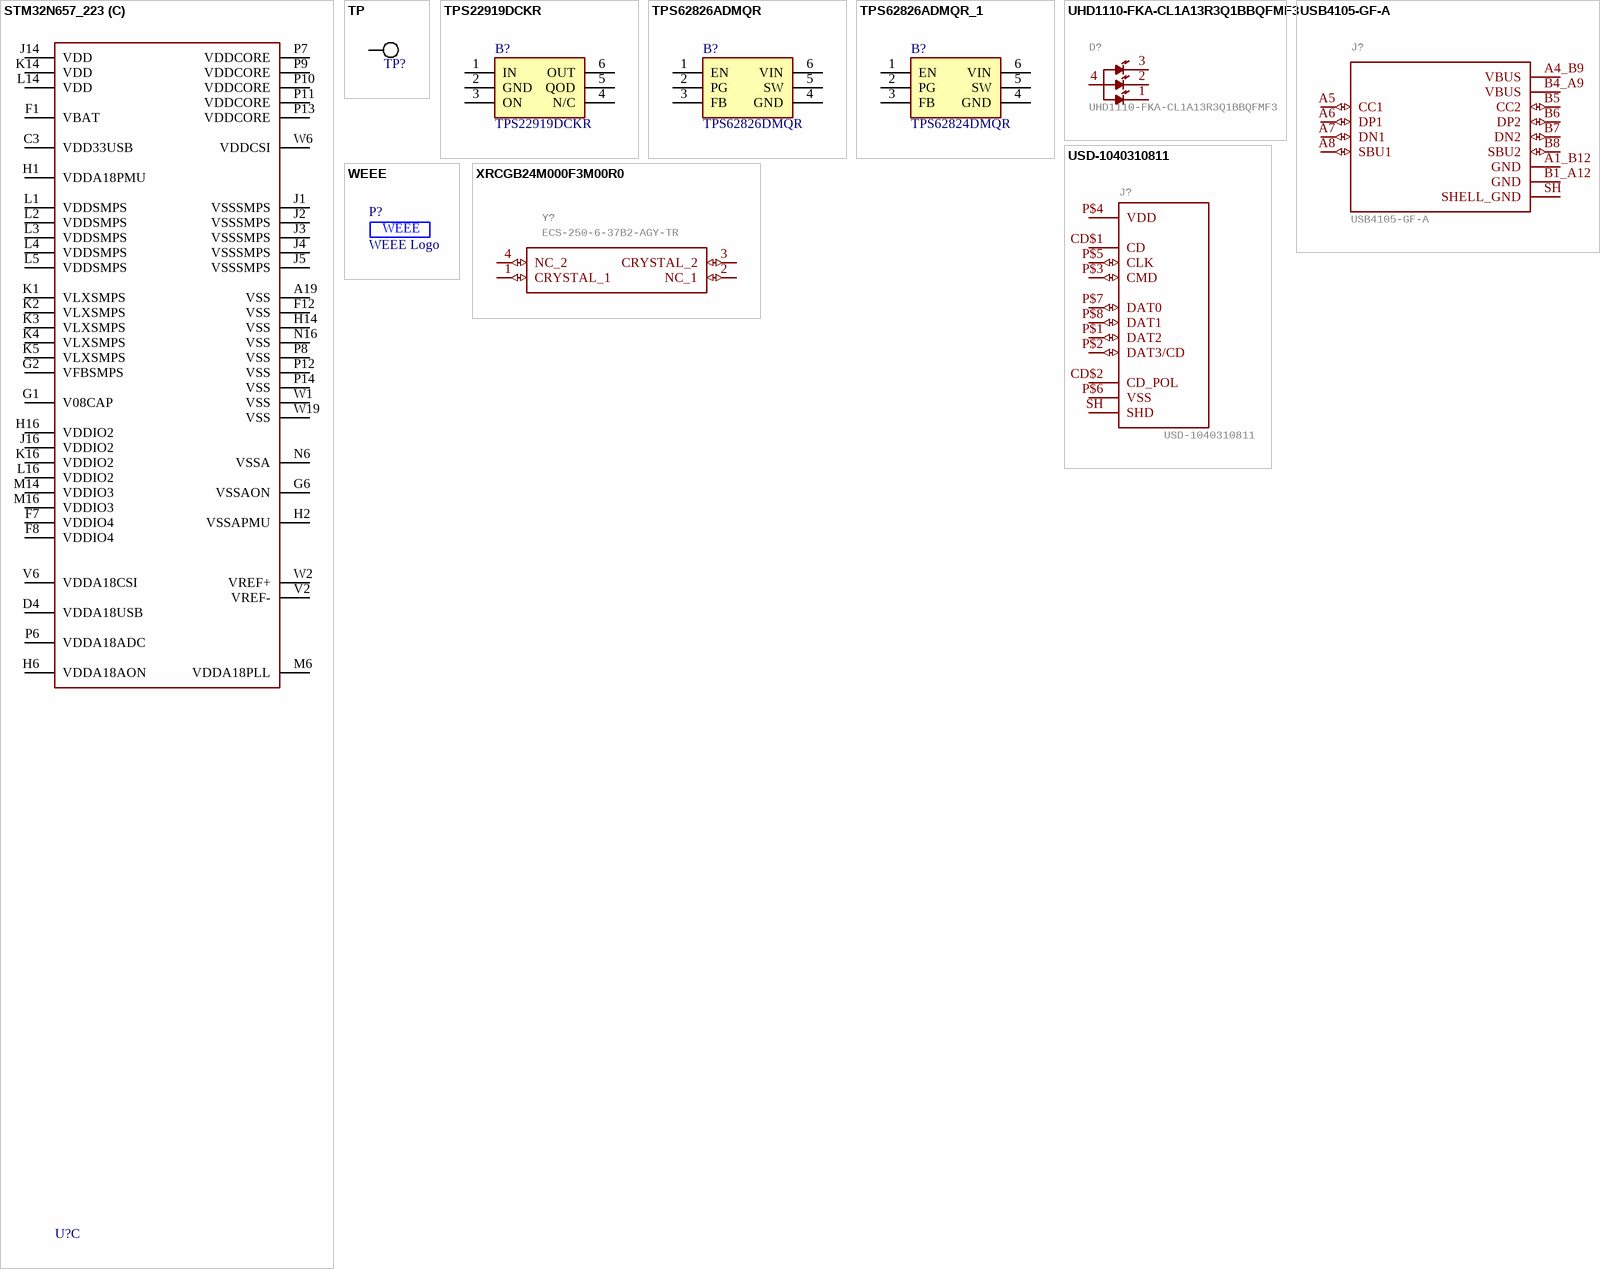
[diagram p3: symbols STM32N657_223 to XRCGB24M000F3M00R0]

## STM32N657_223
designator U?  (value not drawn)
MPN: STM32N657
footprint STM32N657_VFBGA223
part A pins: A5 PH0-OSC_IN, A6 PC12, A7 PC1, A8 PC6, A9 PE13, A10 PD6, A11 PD12, A12 PD15, A13 PE8, A14 PB15, A15 PD5, A16 PB13, A17 PD11, A18 PE0, B5 PH1-OSC_OUT, B6 PC11, B7 PH9, B8 PC7, B9 PE6, B10 PD2, B11 PE7, B12 PD0, B13 PD4, B14 PD8, B15 PB9, B16 PB2, B17 PB3, B18 PE1, B19 PE2, C17 PB14, C18 PE3, C19 PB0, D1 PC15-OSC32_OUT, D5 PC9, D6 PC10, D7 PH2, D8 PE11, D9 PE5, D10 PE12, D11 PD10, D12 PD1, D13 PD3, D14 PE10, D15 PB8, D16 PD13, D18 PP10, D19 PB6, E1 PC14-OSC32_IN, E16 PB7, E18 PO3, E19 PP9, F6 PC8, F9 PE14, F10 PE15, F11 PD7, F13 PD14, F14 PE9, F16 PO0, F18 PP1, F19 PP8, G14 PD9, G16 PO5, G18 PO2, G19 PP7, H4 PC13, H18 PP0, H19 PP6, J18 PO4, J19 PP5, K18 PP2, K19 PP3, L18 PP15, L19 PP4, M1 PF4, M2 PF10, M4 PF6, M18 PP14, M19 PP13, N1 PG6, N2 PG5, N4 PF5, N14 PO1, N18 PP12, N19 PP11, P1 PF3, P2 PF14, P4 PF2, P16 PN1, P18 PN11, P19 PN3, R1 PF15, R2 PF7, R4 PF8, R16 PN7, R18 PN10, R19 PN0, T1 PF11, T2 PF9, T4 PG4, T5 PG3, T7 PG14, T8 PA11, T9 PA8, T10 PA6, T11 PG1, T12 PG10, T13 PB10, T14 PB5, T15 PA15, T16 PG0, T18 PN9, T19 PN2, U1 PF1, U2 PF12, U3 PF0, U17 PA3, U18 PN5, U19 PN6, V1 PF13, V7 PA14, V8 PA12, V9 PA9, V10 PA5, V11 PG12, V12 PA0, V13 PB11, V14 PB1, V15 PA7, V16 PG9, V17 PG8, V18 PN8, V19 PN4, W7 PA13, W8 PG15, W9 PA10, W10 PA2, W11 PG13, W12 PA1, W13 PB12, W14 PG2, W15 PB4, W16 PG11, W17 PA4, W18 PN12
part B pins: A1 PDR_ON, A2 OTG1_TRXTUNE, A3 OTG1_HSDP, A4 UCPD1_CC1, A4 OTG1_ID, B1 NC, B3 OTG1_HSDM, B4 UCPD1_CC2, C1 OTG2_HSDP, C2 OTG2_HSDM, D2 NC, E2 OTG2_TRXTUNE, E4 OTG2_ID, F2 NRST, F4 BOOT0, G4 PWR_ON, T6 CSI_REXT, V3 CSI_D1_N, V4 CSI_CK_N, V5 CSI_D0_N, W3 CSI_D1_P, W4 CSI_CK_P, W5 CSI_D0_P
part C pins: A19 VSS, C3 VDD33USB, D4 VDDA18USB, F1 VBAT, F7 VDDIO4, F8 VDDIO4, F12 VSS, G1 V08CAP, G2 VFBSMPS, G6 VSSAON, H1 VDDA18PMU, H2 VSSAPMU, H6 VDDA18AON, H14 VSS, H16 VDDIO2, J1 VSSSMPS, J2 VSSSMPS, J3 VSSSMPS, J4 VSSSMPS, J5 VSSSMPS, J14 VDD, J16 VDDIO2, K1 VLXSMPS, K2 VLXSMPS, K3 VLXSMPS, K4 VLXSMPS, K5 VLXSMPS, K14 VDD, K16 VDDIO2, L1 VDDSMPS, L2 VDDSMPS, L3 VDDSMPS, L4 VDDSMPS, L5 VDDSMPS, L14 VDD, L16 VDDIO2, M6 VDDA18PLL, M14 VDDIO3, M16 VDDIO3, N6 VSSA, N16 VSS, P6 VDDA18ADC, P7 VDDCORE, P8 VSS, P9 VDDCORE, P10 VDDCORE, P11 VDDCORE, P12 VSS, P13 VDDCORE, P14 VSS, V2 VREF-, V6 VDDA18CSI, W1 VSS, W2 VREF+, W6 VDDCSI, W19 VSS

## TP
designator TP?  (value not drawn)  (no BOM)
footprint TP_1p8 (0.8mm hold, 1.8mm pad)
footprint TP_THRU
pins: 1

## TPS22919DCKR
designator B?
5.5V, 1.5A, 90m self-protected load switch with controlled rise time; Manufacturer_Name: Texas Instruments; Geometry.Height: 1.1mm; Mouser Part Number: 595-TPS22919DCKR; Mouser Price/Stock: https://www.mouser.co.uk/ProductDetail/Texas-Instruments/TPS22919DCKR?qs=byeeYqUIh0P8WJZpeizUqw%3D%3D; Manufacturer_Part_Number: TPS22919DCKR; Datasheet Link: http://www.ti.com/lit/ds/symlink/tps22919.pdf; Part Number: TPS22919DCKR; MPN: TPS22919DCKR
footprint SOT65P210X110-6N
pins: 1 IN, 2 GND, 3 ON, 4 N/C, 5 QOD, 6 OUT

## TPS62826ADMQR
designator B?, comment TPS62826DMQR
Switching Voltage Regulators 2.4-V to 5.5-V input, 3-A step-down converter with in 1.5-mm 1.5-mm QFN package; Manufacturer_Name: Texas Instruments; Geometry.Height: 1mm; Mouser Part Number: 595-TPS62826DMQR; Mouser Price/Stock: https://www.mouser.co.uk/ProductDetail/Texas-Instruments/TPS62826ADMQR?qs=KUoIvG%2F9Ila3pPUbedlDEw%3D%3D; Manufacturer_Part_Number: TPS62826DMQR; Datasheet Link: https://www.ti.com/lit/ds/symlink/tps62825a.pdf?ts=1608196934558&ref_url=https%253A%252F%252Fwww.ti.com%252Fstore%252Fti%252Fen%252Fp%252Fproduct%252F%253Fp%253DTPS62825ADMQR%2526keyMatch%253DTPS62825ADMQR%2526tisearch%253DSearch-EN-everything%2526usecase; MPN: TPS62826DMQR; Part Number: TPS62826DMQR
footprint TPS62826ADMQR
pins: 1 EN, 2 PG, 3 FB, 4 GND, 5 SW, 6 VIN

## TPS62826ADMQR_1
designator B?, comment TPS62824DMQR
Switching Voltage Regulators 2.4-V to 5.5-V input, 1-A step-down converter in 1.5-mm 1.5-mm QFN package; Manufacturer_Name: Texas Instruments; Geometry.Height: 1mm; Mouser Part Number: 595-TPS62824DMQR; Mouser Price/Stock: https://www.mouser.co.uk/ProductDetail/Texas-Instruments/TPS62826ADMQR?qs=KUoIvG%2F9Ila3pPUbedlDEw%3D%3D; Manufacturer_Part_Number: TPS62824DMQR; Datasheet Link: https://www.ti.com/lit/ds/symlink/tps62825a.pdf?ts=1608196934558&ref_url=https%253A%252F%252Fwww.ti.com%252Fstore%252Fti%252Fen%252Fp%252Fproduct%252F%253Fp%253DTPS62825ADMQR%2526keyMatch%253DTPS62825ADMQR%2526tisearch%253DSearch-EN-everything%2526usecase; MPN: TPS62824DMQR; Part Number: TPS62824DMQR
footprint TPS62826ADMQR
pins: 1 EN, 2 PG, 3 FB, 4 GND, 5 SW, 6 VIN

## UHD1110-FKA-CL1A13R3Q1BBQFMF3
designator D?
LED RGB SMD, SIZE 1 X 1 mm Check availability; GateName_1: G$1; MF: Cree Inc.; SymbolName_1: UHD1110-FKA-CL1A13R3Q1BBQFMF3; LibraryName: UHD1110-FKA-CL1A13R3Q1BBQFMF3; DeviceSetName: UHD1110-FKA-CL1A13R3Q1BBQFMF3; AVAILABILITY: In Stock; MP: UHD1110-FKA-CL1A13R3Q1BBQFMF3; MPN: UHD1110-FKA-CL1A13r3q1BBQFMF3; PACKAGE: 0404 Cree Inc.; PRICE: None; PURCHASE-URL: https://pricing.snapeda.com/search/part/UHD1110-FKA-CL1A13R3Q1BBQFMF3/?ref=eda; Part Number: UHD1110-FKA-CL1A13r3q1BBQFMF3
footprint LED_UHD1110-FKA-CL1A13R3Q1BBQFMF3
pins: 1 BLUE, 2 GREEN, 3 RED, 4 ANODE

## USB4105-GF-A
designator J?
USB-C (USB TYPE-C) USB 2.0 Receptacle Connector 24 (16+8 Dummy) Position Surface Mount, Right Angle; Through Hole  Check availability; GateName_1: G$1; MF: GCT; SymbolName_1: USB4105-GF-A; LibraryName: USB4105-GF-A; DeviceSetName: USB4105-GF-A; AVAILABILITY: In Stock; MP: USB4105-GF-A; MPN: USB4105-GF-A; PACKAGE: None; PRICE: None; PURCHASE-URL: https://pricing.snapeda.com/search/part/USB4105-GF-A/?ref=eda; Part Number: USB4105-GF-A
footprint GCT_USB4105-GF-A
pins: A1_B12 GND (power), A4_B9 VBUS (power), A5 CC1 (io), A6 DP1 (io), A7 DN1 (io), A8 SBU1 (io), B1_A12 GND (power), B4_A9 VBUS (power), B5 CC2 (io), B6 DP2 (io), B7 DN2 (io), B8 SBU2 (io), SH SHELL_GND (power)

## USD-1040310811
designator J?
uSD Slot; MPN: 104031-0811; GateName_1: G$1; SymbolName_1: USD; LibraryName: 1040310811; DeviceSetName: USD-1040310811; Part Number: 104031-0811
footprint 1040310811
pins: CD$1 CD (power), CD$2 CD_POL (power), P$1 DAT2 (io), P$2 DAT3/CD (io), P$3 CMD (io), P$4 VDD (power), P$5 CLK (io), P$6 VSS (power), P$7 DAT0 (io), P$8 DAT1 (io), SH SHD (power)

## WEEE
designator P?, comment WEEE Logo  (no BOM)
footprint WEEE

## XRCGB24M000F3M00R0
designator Y?, comment ECS-250-6-37B2-AGY-TR
Murata 48MHz Crystal +/-30ppm SMD 4-Pin 2 x 1.6 x 0.7mm   Source:  Datasheet; MANUFACTURER_NAME: Murata Electronics; MANUFACTURER_PART_NUMBER: XRCGB48M000F0L00R0; GateName_1: G$1; SymbolName_1: ECS-250-6-37B2-AGY-TR; LibraryName: ECS-250-6-37B2-AGY-TR; DeviceSetName: ECS-250-6-37B2-AGY-TR; HEIGHT: mm; MOUSER_PART_NUMBER: 81-XRCGB48M000F0L00R0; MOUSER_PRICE-STOCK: https://www.mouser.com/ProductDetail/Murata-Electronics/XRCGB48M000F0L00R0?qs=e%252BE4OD6MgMeeUSmgUp7uPA%3D%3D; MPN: XRCGB48M000F0L00R0; Part Number: XRCGB48M000F0L00R0
footprint XRCGB24M000F3M00R0
pins: 1 CRYSTAL_1 (io), 2 NC_1 (io), 3 CRYSTAL_2 (io), 4 NC_2 (io)